# Altium schematic symbol library SIS412DN-T1-GE3.SchLib: 2 symbols
Pins are listed as number, name and electrical type; pins without a type are passive.

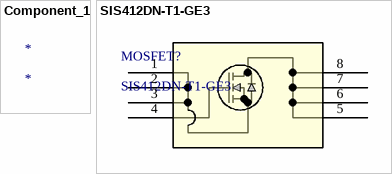
[diagram p0: symbols Component_1 to SIS412DN-T1-GE3]

## Component_1
designator *

## SIS412DN-T1-GE3
designator MOSFET?
No Description Available; Vendor: Vishay; Built_By: EMA_Cory; Datasheet: https://www.vishay.com/docs/69006/sis412dn.pdf; Manufacturer_Part_Number: SIS412DN-T1-GE3; Copyright: Copyright (C) 2018 Accelerated Designs. All rights reserved; RefDes: RefDes; Type: DEV
footprint POWERPAK_1212-8
pins: 1 S, 2 S, 3 S, 4 G, 5 D, 6 D, 7 D, 8 D